# EAGLE library part MAX31856 (library lib_test)
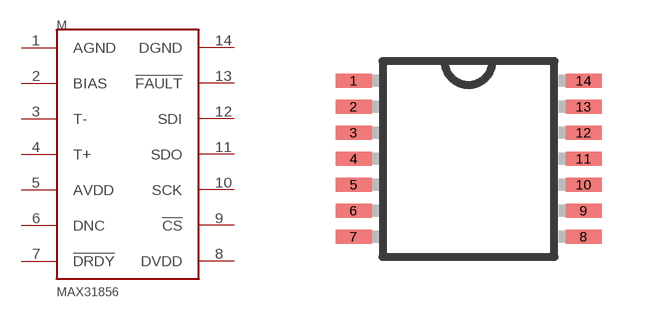
[diagram p0: symbol with the pads of TSSOP14; footprint TSSOP14]

Designator prefix M

## MAX31856  [TSSOP14]
1  AGND
2  BIAS
3  T-
4  T+
5  AVDD
6  DNC
7  !DRDY
8  DVDD
9  !CS
10  SCK
11  SDO
12  SDI
13  !FAULT
14  DGND

## Footprint TSSOP14 (pad centres in mm)
14-Lead Thin Shrink Small Outline Package [TSSOP] Source: Analog Devices .. 780914713ADD8704_0.pdf
smd 0.9 x 0.35: 1 -2.875,1.95; 2 -2.875,1.3; 3 -2.875,0.65; 4 -2.875,0; 5 -2.875,-0.65; 6 -2.875,-1.3; 7 -2.875,-1.95; 8 2.875,-1.95; 9 2.875,-1.3; 10 2.875,-0.65; 11 2.875,0; 12 2.875,0.65; 13 2.875,1.3; 14 2.875,1.95